# EAGLE library part ARDUINOPROMINIREDUCED (library snulllib)
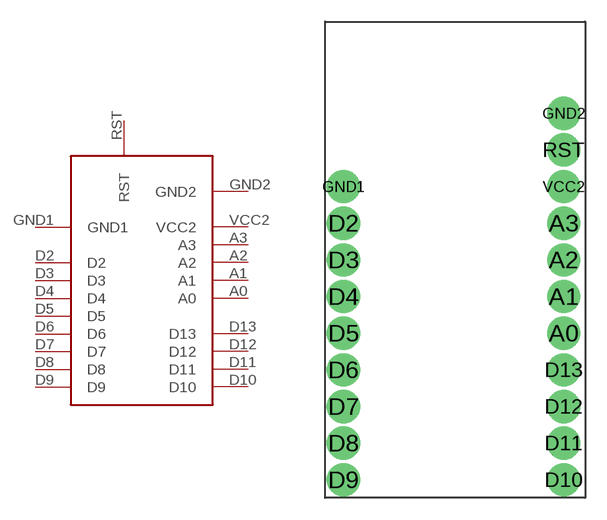
[diagram p2: symbol with the pads of ARDUINOPROMINIREDUCED; footprint ARDUINOPROMINIREDUCED]

Designator prefix -

## ARDUINOPROMINIREDUCED  [ARDUINOPROMINIREDUCED]
A0  A0
A1  A1
A2  A2
A3  A3
D2  D2
D3  D3
D4  D4
D5  D5
D6  D6
D7  D7
D8  D8
D9  D9
D10  D10
D11  D11
D12  D12
D13  D13
GND1  GND1
GND2  GND2
RST  RST
VCC2  VCC2

## Footprint ARDUINOPROMINIREDUCED (pad centres in mm)
drill 1 pad 2.3: A0 16.51,-21.59; A1 16.51,-19.05; A2 16.51,-16.51; A3 16.51,-13.97; D2 1.27,-13.97; D3 1.27,-16.51; D4 1.27,-19.05; D5 1.27,-21.59; D6 1.27,-24.13; D7 1.27,-26.67; D8 1.27,-29.21; D9 1.27,-31.75; D10 16.51,-31.75; D11 16.51,-29.21; D12 16.51,-26.67; D13 16.51,-24.13; GND1 1.27,-11.43; GND2 16.51,-6.35; RST 16.51,-8.89; VCC2 16.51,-11.43